# EAGLE library part MSP430F413 (library ecssr)
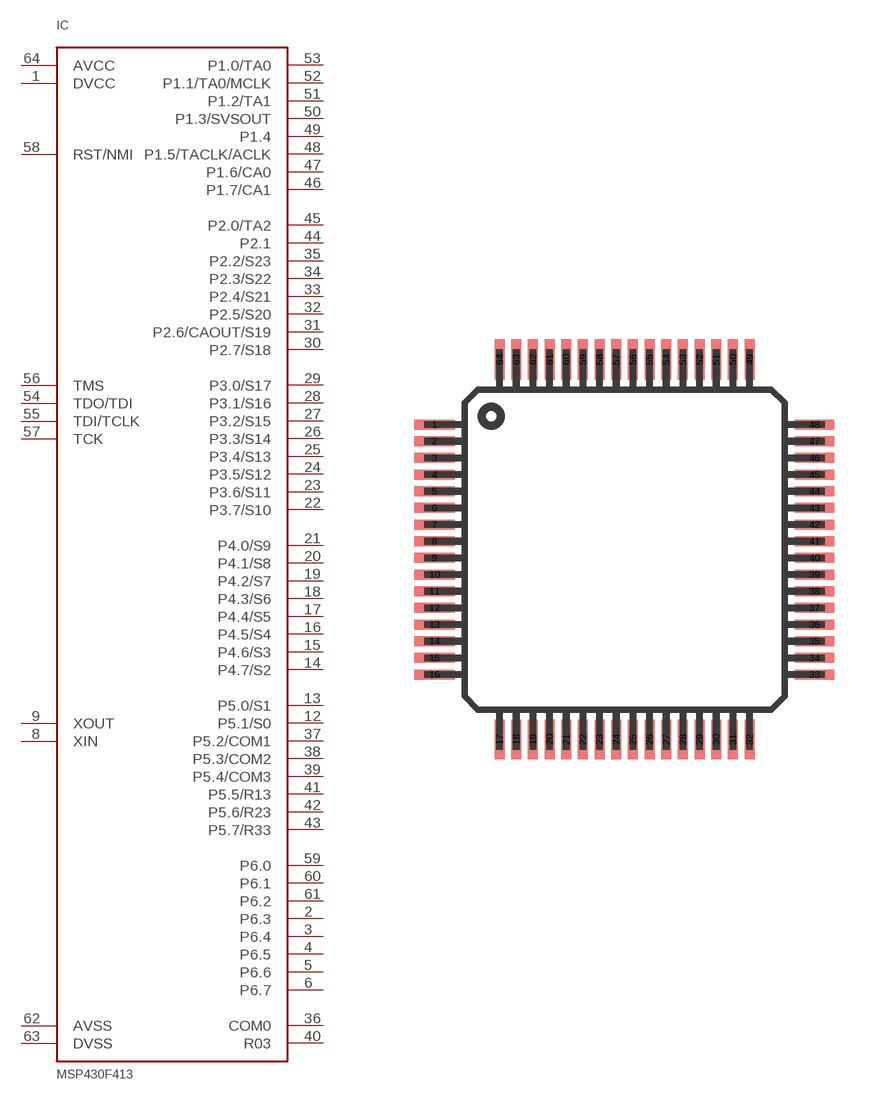
[diagram p5: symbol with the pads of LQFP-64; footprint LQFP-64]

Designator prefix IC

## MSP430F413  [LQFP-64]
1  DVCC
2  P6.3
3  P6.4
4  P6.5
5  P6.6
6  P6.7
8  XIN
9  XOUT
12  P5.1/S0
13  P5.0/S1
14  P4.7/S2
15  P4.6/S3
16  P4.5/S4
17  P4.4/S5
18  P4.3/S6
19  P4.2/S7
20  P4.1/S8
21  P4.0/S9
22  P3.7/S10
23  P3.6/S11
24  P3.5/S12
25  P3.4/S13
26  P3.3/S14
27  P3.2/S15
28  P3.1/S16
29  P3.0/S17
30  P2.7/S18
31  P2.6/CAOUT/S19
32  P2.5/S20
33  P2.4/S21
34  P2.3/S22
35  P2.2/S23
36  COM0
37  P5.2/COM1
38  P5.3/COM2
39  P5.4/COM3
40  R03
41  P5.5/R13
42  P5.6/R23
43  P5.7/R33
44  P2.1
45  P2.0/TA2
46  P1.7/CA1
47  P1.6/CA0
48  P1.5/TACLK/ACLK
49  P1.4
50  P1.3/SVSOUT
51  P1.2/TA1
52  P1.1/TA0/MCLK
53  P1.0/TA0
54  TDO/TDI
55  TDI/TCLK
56  TMS
57  TCK
58  RST/NMI
59  P6.0
60  P6.1
61  P6.2
62  AVSS
63  DVSS
64  AVCC

## Footprint LQFP-64 (pad centres in mm)
smd 1.2 x 0.3: 1 -0.62,-1.33; 2 -0.62,-1.83; 3 -0.62,-2.33; 4 -0.62,-2.83; 5 -0.62,-3.33; 6 -0.62,-3.83; 7 -0.62,-4.33; 8 -0.62,-4.83; 9 -0.62,-5.33; 10 -0.62,-5.83; 11 -0.62,-6.33; 12 -0.62,-6.83; 13 -0.62,-7.33; 14 -0.62,-7.83; 15 -0.62,-8.33; 16 -0.62,-8.83; 33 10.78,-8.83; 34 10.78,-8.33; 35 10.78,-7.83; 36 10.78,-7.33; 37 10.78,-6.83; 38 10.78,-6.33; 39 10.78,-5.83; 40 10.78,-5.33; 41 10.78,-4.83; 42 10.78,-4.33; 43 10.78,-3.83; 44 10.78,-3.33; 45 10.78,-2.83; 46 10.78,-2.33; 47 10.78,-1.83; 48 10.78,-1.33
smd 0.3 x 1.2: 17 1.33,-10.78; 18 1.83,-10.78; 19 2.33,-10.78; 20 2.83,-10.78; 21 3.33,-10.78; 22 3.83,-10.78; 23 4.33,-10.78; 24 4.83,-10.78; 25 5.33,-10.78; 26 5.83,-10.78; 27 6.33,-10.78; 28 6.83,-10.78; 29 7.33,-10.78; 30 7.83,-10.78; 31 8.33,-10.78; 32 8.83,-10.78; 49 8.83,0.62; 50 8.33,0.62; 51 7.83,0.62; 52 7.33,0.62; 53 6.83,0.62; 54 6.33,0.62; 55 5.83,0.62; 56 5.33,0.62; 57 4.83,0.62; 58 4.33,0.62; 59 3.83,0.62; 60 3.33,0.62; 61 2.83,0.62; 62 2.33,0.62; 63 1.83,0.62; 64 1.33,0.62